# Altium footprint library PRTR5V0U2X.PcbLib: 3 footprints
Each footprint in its own frame and in the unit in brackets; x right, y up, seen from the top. Pads: shape width x height; smd on the part's side, far side on the other; paste and mask are expansions set on the pad; w line width, h text height; cw(c..) or ccw(c..) is an arc to the next point about the centre after c.
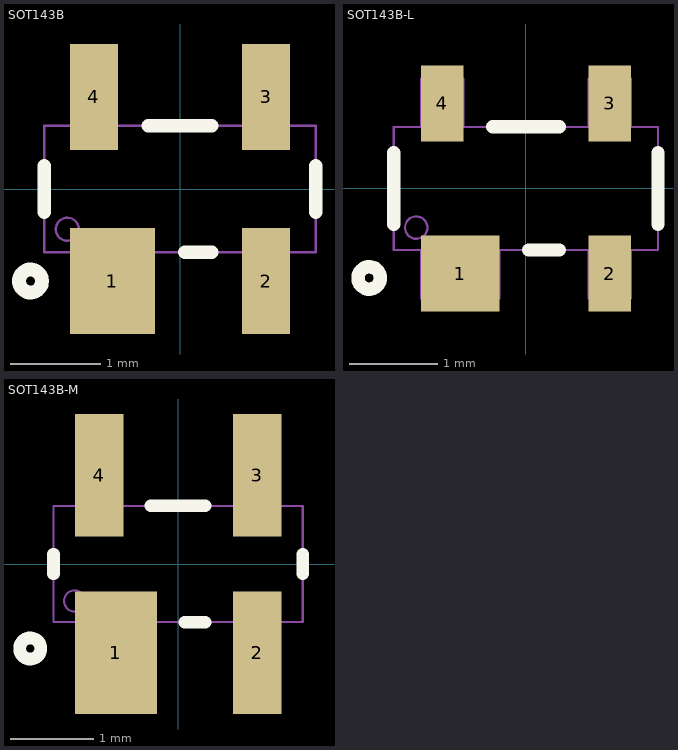
[diagram p0: the footprints below, top view; thin cyan lines are the x and y axes]

## SOT143B [mil]
pads (4):
  rect 37x46 smd: 1(-29.4,-40)
  rect 21x46 smd: 2(37.4,-40) 3(37.4,40) 4(-37.4,40)
Top Overlay:
  circle w6: c-65,-40 r5
  lines w6: -59,-10.04 -59,10.04 ; -13.8,27.5 13.8,27.5 ; 2.2,-27.5 13.8,-27.5 ; 59,-10.04 59,10.04
Outline:
  circle w1: c-49,-17.5 r5
  lines w1: -59,-27.5 -59,27.5 59,27.5 59,-27.5 -59,-27.5 ; -46.9,-49 -11.9,-49 -11.9,-27.5 -46.9,-27.5 -46.9,-49 ; -46.9,27.5 -46.9,49 -27.9,49 -27.9,27.5 -46.9,27.5 ; 27.9,-49 46.9,-49 46.9,-27.5 27.9,-27.5 27.9,-49 ; 27.9,27.5 27.9,49 46.9,49 46.9,27.5 27.9,27.5
3D body: height 43.11, standoff 0, extent -59.01,-49.01 59.02,49.02

## SOT143B-L [mil]
pads (4):
  rect 35x34 smd: 1(-29.4,-38)
  rect 19x34 smd: 2(37.4,-38) 3(37.4,38) 4(-37.4,38)
Top Overlay:
  circle w6: c-70,-40 r5
  lines w6: -59,-15.98 -59,15.98 ; -14.8,27.5 14.8,27.5 ; 1.2,-27.5 14.8,-27.5 ; 59,-15.98 59,15.98
Outline:
  circle w1: c-49,-17.5 r5
  lines w1: -59,-27.5 -59,27.5 59,27.5 59,-27.5 -59,-27.5 ; -46.9,-49 -11.9,-49 -11.9,-27.5 -46.9,-27.5 -46.9,-49 ; -46.9,27.5 -46.9,49 -27.9,49 -27.9,27.5 -46.9,27.5 ; 27.9,-49 46.9,-49 46.9,-27.5 27.9,-27.5 27.9,-49 ; 27.9,27.5 27.9,49 46.9,49 46.9,27.5 27.9,27.5
3D body: height 43.11, standoff 0, extent -59.01,-49.01 59.02,49.02

## SOT143B-M [mil]
pads (4):
  rect 39x58 smd: 1(-29.4,-42)
  rect 23x58 smd: 2(37.4,-42) 3(37.4,42) 4(-37.4,42)
Top Overlay:
  circle w6: c-70,-40 r5
  lines w6: -59,-4.66 -59,4.66 ; -12.8,27.5 12.8,27.5 ; 3.2,-27.5 12.8,-27.5 ; 59,-4.66 59,4.66
Outline:
  circle w1: c-49,-17.5 r5
  lines w1: -59,-27.5 -59,27.5 59,27.5 59,-27.5 -59,-27.5 ; -46.9,-49 -11.9,-49 -11.9,-27.5 -46.9,-27.5 -46.9,-49 ; -46.9,27.5 -46.9,49 -27.9,49 -27.9,27.5 -46.9,27.5 ; 27.9,-49 46.9,-49 46.9,-27.5 27.9,-27.5 27.9,-49 ; 27.9,27.5 27.9,49 46.9,49 46.9,27.5 27.9,27.5
3D body: height 43.11, standoff 0, extent -59.01,-49.01 59.02,49.02